# EAGLE library part TPA6100A (library PP_AnalogIC)
Manufacturer Part #: TPA6100A Manufacturer: Texas Instruments Description: Audio Amplifiers Ultra Low Voltage Stereo Headphone
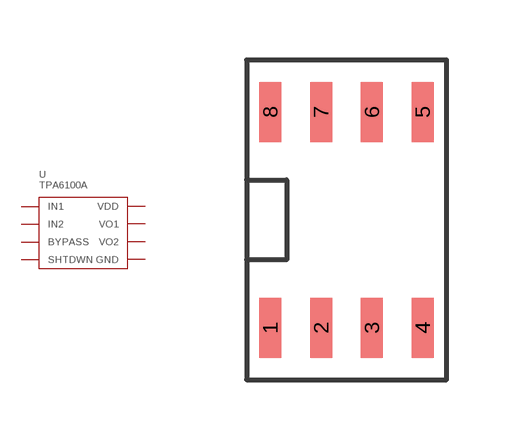
[diagram p2: symbol with the pads of TPA6100A_SOIC-8; footprint TPA6100A_SOIC-8]

Designator prefix U

## TPA6100A2DR (POPULATE: 1)  [TPA6100A_SOIC-8]
1  BYPASS
2  GND
3  SHTDWN
4  IN2
5  VO2
6  VDD
7  VO1
8  IN1

## Footprint TPA6100A_SOIC-8 (pad centres in mm)
smd 0.55 x 1.5: 1 -1.905,-2.7; 2 -0.635,-2.7; 3 0.635,-2.7; 4 1.905,-2.7; 5 1.905,2.7; 6 0.635,2.7; 7 -0.635,2.7; 8 -1.905,2.7